# Altium footprint library 磁珠滤波器emi优化.PcbLib: 1 footprints
Each footprint in its own frame and in the unit in brackets; x right, y up, seen from the top. Pads: shape width x height; smd on the part's side, far side on the other; paste and mask are expansions set on the pad; w line width, h text height; cw(c..) or ccw(c..) is an arc to the next point about the centre after c.
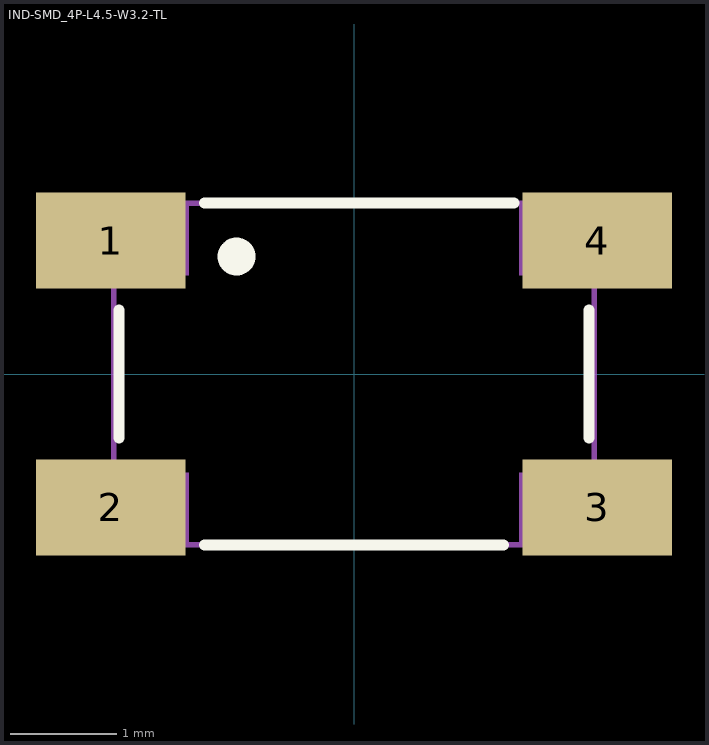
[diagram p0: the footprint, top view; thin cyan lines are the x and y axes]

## IND-SMD_4P-L4.5-W3.2-TL [mm]
pads (4):
  rect 1.4x0.9 smd: 1(-2.28,1.25) 2(-2.28,-1.25) 3(2.28,-1.25) 4(2.28,1.25)
Top Overlay:
  circle w0.254: c-1.1,1.1 r0.05
  lines w0.102: -2.2,-0.6 -2.2,0.6 ; -1.4,-1.6 1.4,-1.6 ; -1.4,1.6 1.5,1.6 ; 2.2,-0.6 2.2,0.6
Mechanical 15:
  region: -2.19,1.6 -2.19,1.625 -2.225,1.66 -2.275,1.66 -2.31,1.625 -2.31,1.6 -2.31,1.575 -2.275,1.54 -2.225,1.54 -2.19,1.575 -2.19,1.6
  region: -1.55,1.575 -1.55,0.925 -2.25,0.925 -2.25,1.575
  region: -1.55,-0.923 -1.55,-1.573 -2.25,-1.573 -2.25,-0.923
  region: 2.25,1.575 2.25,0.925 1.55,0.925 1.55,1.575
  region: 2.25,-0.925 2.25,-1.575 1.55,-1.575 1.55,-0.925
  lines w0.051: -2.25,-1.6 2.25,-1.6 2.25,1.6 -2.25,1.6 -2.25,-1.6
3D body "C76584.step": height 2.6, standoff 0, extent -2.26,-1.61 2.26,1.61